# Altium footprint library Sykam-Mech1.PcbLib: 15 footprints (part 1 of 4)
Each footprint in its own frame and in the unit in brackets; x right, y up, seen from the top. Pads: shape width x height; smd on the part's side, far side on the other; paste and mask are expansions set on the pad; w line width, h text height; cw(c..) or ccw(c..) is an arc to the next point about the centre after c.
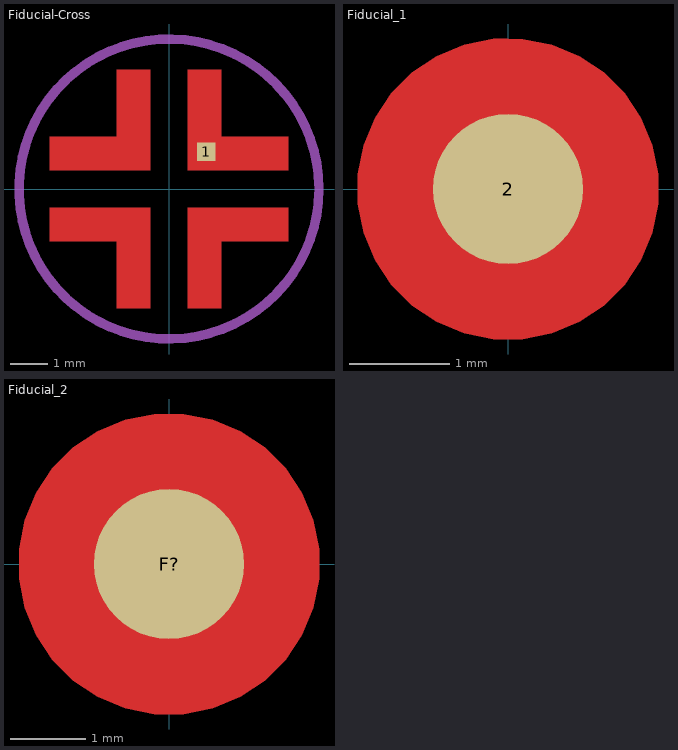
[diagram p0: the footprints below, top view; thin cyan lines are the x and y axes]

## Fiducial-Cross [mm]
pads (1):
  rect 0.5x0.5 smd mask-6: 1(1,1)
Top Layer:
  region: -3.2,0.5 -3.2,1.4 -1.4,1.4 -1.4,3.2 -0.5,3.2 -0.5,0.5
  region: -0.5,-3.2 -1.4,-3.2 -1.4,-1.4 -3.2,-1.4 -3.2,-0.5 -0.5,-0.5
  region: 3.2,-0.5 3.2,-1.4 1.4,-1.4 1.4,-3.2 0.5,-3.2 0.5,-0.5
  region: 0.5,3.2 1.4,3.2 1.4,1.4 3.2,1.4 3.2,0.5 0.5,0.5
Top Paste:
  region: -0.5,-3.2 -1.4,-3.2 -1.4,-1.4 -3.2,-1.4 -3.2,-0.5 -0.5,-0.5
  region: -3.2,0.5 -3.2,1.4 -1.4,1.4 -1.4,3.2 -0.5,3.2 -0.5,0.5
  region: 3.2,-0.5 3.2,-1.4 1.4,-1.4 1.4,-3.2 0.5,-3.2 0.5,-0.5
  region: 0.5,3.2 1.4,3.2 1.4,1.4 3.2,1.4 3.2,0.5 0.5,0.5
Top Solder:
  region: -3.5,-1.7 -3.5,-0.2 -0.2,-0.2 -0.2,-3.5 -1.7,-3.5 -1.7,-1.7
  region: 1.7,-3.5 0.2,-3.5 0.2,-0.2 3.5,-0.2 3.5,-1.7 1.7,-1.7
  region: 3.5,1.7 3.5,0.2 0.2,0.2 0.2,3.5 1.7,3.5 1.7,1.7
  region: -1.7,3.5 -0.2,3.5 -0.2,0.2 -3.5,0.2 -3.5,1.7 -1.7,1.7
Top Assembly:
  circle w0.254: c0,0 r4.031
  text "Mark" at -2.099,-1.946 h1.2
  text "Optical" at -3.499,0.154 h1.2

## Fiducial_1 [mm] "d=1.5mm"
pads (1):
  round 1.5 smd paste-5 mask+0.75: 2(0,0)
Top Layer:
  pour cut-out: 1.5,0 1.5,0.148 1.442,0.438 1.329,0.711 1.165,0.956 0.956,1.165 0.711,1.329 0.438,1.442 0.148,1.5 0,1.5 -0.148,1.5 -0.438,1.442 -0.711,1.329 -0.956,1.165 -1.165,0.956 -1.329,0.711 -1.442,0.438 -1.5,0.148 -1.5,0 -1.5,-0.148 -1.442,-0.438 -1.329,-0.711 -1.165,-0.956 -0.956,-1.165 -0.711,-1.329 -0.438,-1.442 -0.148,-1.5 0,-1.5 0.148,-1.5 0.438,-1.442 0.711,-1.329 0.956,-1.165 1.165,-0.956 1.329,-0.711 1.442,-0.438 1.5,-0.148

## Fiducial_2 [mm] "d=2mm"
pads (1):
  round 2 smd paste-5 mask+1: F?(0,0)
Top Layer:
  pour cut-out: 2,0 2,0.197 1.923,0.583 1.772,0.947 1.554,1.275 1.275,1.554 0.947,1.772 0.583,1.923 0.197,2 0,2 -0.197,2 -0.583,1.923 -0.947,1.772 -1.275,1.554 -1.554,1.275 -1.772,0.947 -1.923,0.583 -2,0.197 -2,0 -2,-0.197 -1.923,-0.583 -1.772,-0.947 -1.554,-1.275 -1.275,-1.554 -0.947,-1.772 -0.583,-1.923 -0.197,-2 0,-2 0.197,-2 0.583,-1.923 0.947,-1.772 1.275,-1.554 1.554,-1.275 1.772,-0.947 1.923,-0.583 2,-0.197